# EAGLE library part MOLEX_14-PIN_FLEXIBLE_CONN (library ModernDevice)
Molex Flexible tape connector FFC non-ZIF Mouser 538-52808-1470
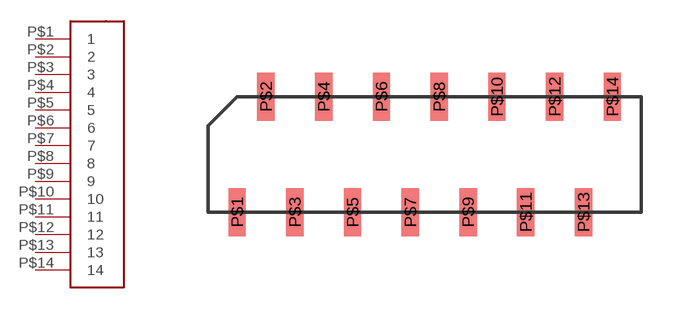
[diagram p79: symbol with the pads of MOLEX_14-PIN_FLEXIBLE_CONN; footprint MOLEX_14-PIN_FLEXIBLE_CONN]

Designator prefix -

## MOLEX_14-PIN_FLEXIBLE_CONN  [MOLEX_14-PIN_FLEXIBLE_CONN]
P$1  1
P$2  2
P$3  3
P$4  4
P$5  5
P$6  6
P$7  7
P$8  8
P$9  9
P$10  10
P$11  11
P$12  12
P$13  13
P$14  14

## Footprint MOLEX_14-PIN_FLEXIBLE_CONN (pad centres in mm)
smd 0.6 x 1.65: P$1 -8,-2; P$2 -7,2; P$3 -6,-2; P$4 -5,2; P$5 -4,-2; P$6 -3,2; P$7 -2,-2; P$8 -1,2; P$9 0,-2; P$10 1,2; P$11 2,-2; P$12 3,2; P$13 4,-2; P$14 5,2